# EAGLE library part ESP32-C3 (library ESP32)
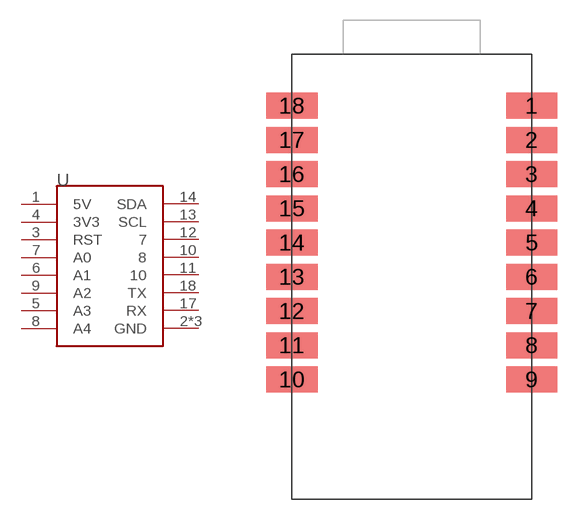
[diagram p0: symbol with the pads of ESP32-C3; footprint ESP32-C3]

Designator prefix U

## ESP32-C3  [ESP32-C3]
1  5V
2  GND
3  RST
4  3V3
5  A3
6  A1
7  A0
8  A4
9  A2
10  8
11  10
12  7
13  SCL
14  SDA
15  GND
16  GND
17  RX
18  TX

## Footprint ESP32-C3 (pad centres in mm)
smd 3.81 x 1.93: 1 8.89,12.7; 2 8.89,10.16; 3 8.89,7.62; 4 8.89,5.08; 5 8.89,2.54; 6 8.89,0; 7 8.89,-2.54; 8 8.89,-5.08; 9 8.89,-7.62; 10 -8.89,-7.62; 11 -8.89,-5.08; 12 -8.89,-2.54; 13 -8.89,0; 14 -8.89,2.54; 15 -8.89,5.08; 16 -8.89,7.62; 17 -8.89,10.16; 18 -8.89,12.7